# Altium footprint library CAN_BUS.PcbLib: 10 footprints
Each footprint in its own frame and in the unit in brackets; x right, y up, seen from the top. Pads: shape width x height; smd on the part's side, far side on the other; paste and mask are expansions set on the pad; w line width, h text height; cw(c..) or ccw(c..) is an arc to the next point about the centre after c.
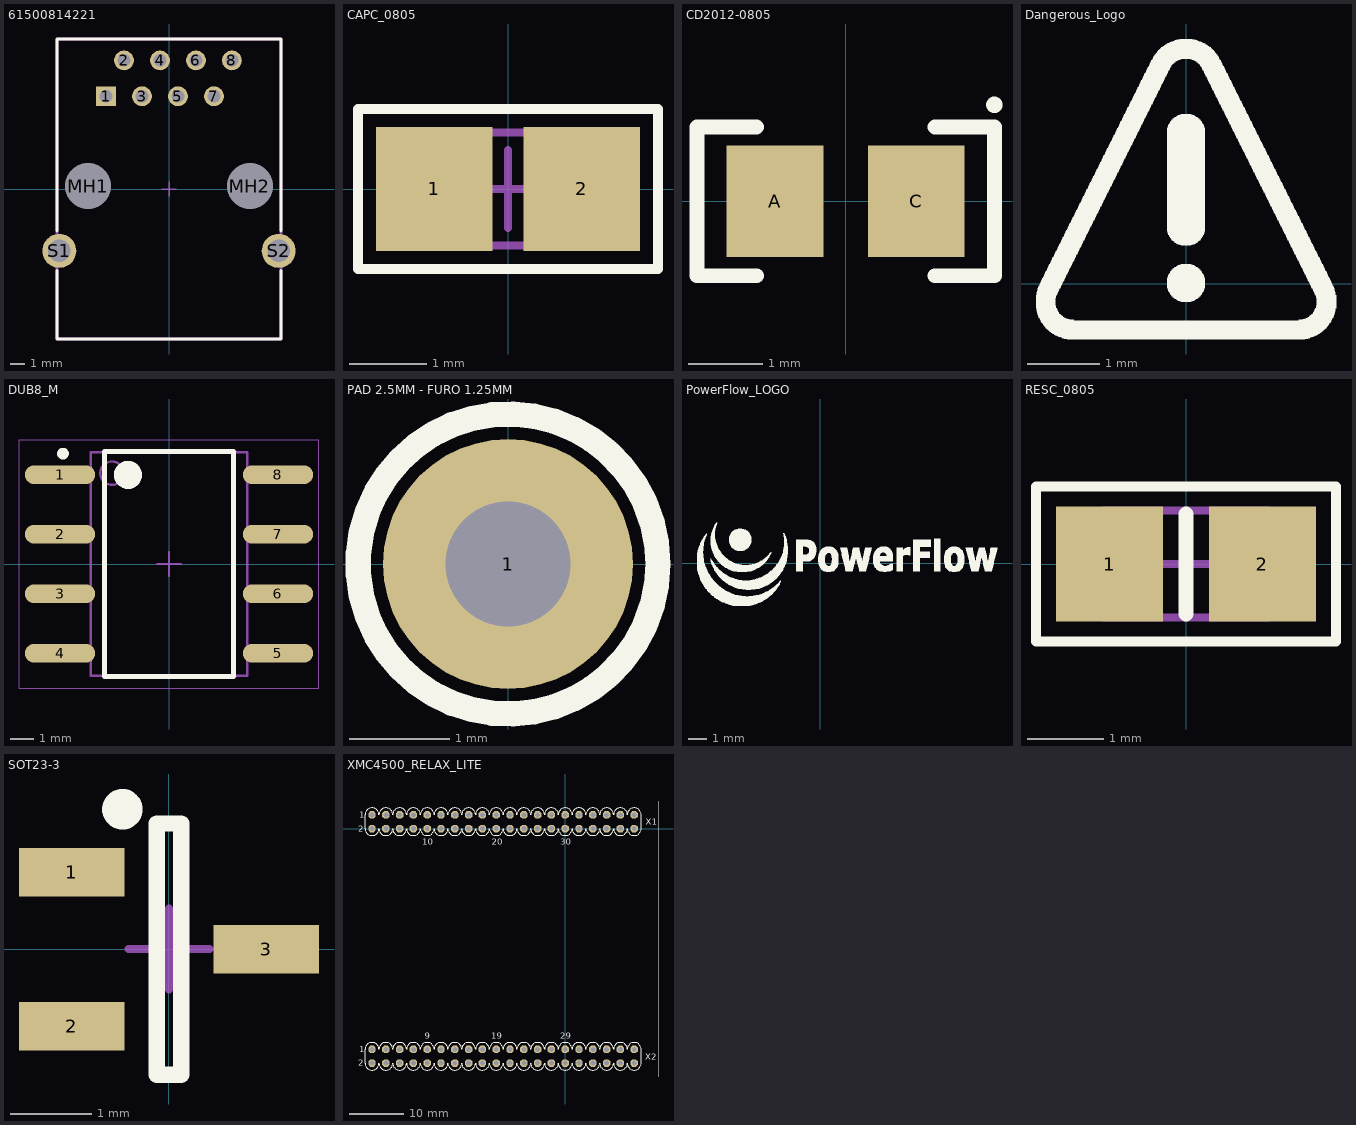
[diagram p0: the footprints below, top view; thin cyan lines are the x and y axes]

## 61500814221 [mm] "Modular Jack Horizontal Shielded 8P8C Tab Down"
height 13.65
pads (12):
  rect 1.4x1.4 hole 0.9: 1(-4.445,6.55)
  round 1.4 hole 0.9: 2(-3.175,9.09) 3(-1.905,6.55) 4(-0.635,9.09) 5(0.635,6.55) 6(1.905,9.09) 7(3.175,6.55) 8(4.445,9.09)
  round 3.15 hole 3.25 unplated: MH1(-5.715,0.2) MH2(5.715,0.2)
  round 2.4 hole 1.6: S1(-7.75,-4.37) S2(7.75,-4.37)
Top Overlay:
  lines w0.2: -7.92,-5.76 -7.92,-10.6 7.92,-10.6 7.92,-5.76 ; -7.92,-2.97 -7.92,10.6 7.92,10.6 7.92,-2.97
Mechanical 13:
  lines w0.2: -7.92,-10.6 -7.92,10.6 7.92,10.6 7.92,-10.6 -7.92,-10.6
Mechanical 15:
  lines w0.1: -0.5,0 0.5,0 ; 0,-0.5 0,0.5
3D body "61500814221.stp": height 13.7, standoff -3.9, extent -7.9,-10.6 7.9,10.6

## CAPC_0805 [mm] "Chip Capacitor, Body 2.0x1.3mm, IPC Low Density"
height 1.1
pads (2):
  rect 1.5x1.6 smd: 1(-0.95,0) 2(0.95,0)
Top Overlay:
  lines w0.127: -1.929,-1.029 -1.929,1.029 1.929,1.029 1.929,-1.029 -1.929,-1.029
Mechanical 13:
  lines w0.1: -1.1,-0.725 1.1,-0.725 1.1,0.725 -1.1,0.725 -1.1,-0.725
Mechanical 15:
  lines w0.1: -0.5,0 0.5,0 ; 0,-0.5 0,0.5
3D body: height 1.1, standoff 0, extent -1.1,-0.725 1.1,0.725

## CD2012-0805 [mm] "Chip Diode; Body 2.0 x 1.3 mm (LxW typ)"
height 1.1
pads (2):
  rect 1.3x1.5 smd: A(-0.95,0) C(0.95,0)
Top Overlay:
  circle w0.15: c2,1.3 r0.035
  lines w0.2: -1.2,-1 -2,-1 -2,1 -1.2,1 ; 1.2,-1 2,-1 2,1 1.2,1
3D body "User Library-CHIPLED-0805.STEP": height 0.9, standoff -0.01, extent -1.05,-0.675 1.05,0.675

## Dangerous_Logo [mil] "Micro Logotipo 15x15mm"
Top Overlay:
  drawing of 1247 lines, arcs and shapes, not listed

## DUB8_M [mm] "SOP, 8-Leads, Body 9.5x6.62mm, Pitch 2.54mm, IPC Low Density"
height 4.85
pads (8):
  oval 3x0.8 smd: 1(-4.65,3.81) 2(-4.65,1.27) 3(-4.65,-1.27) 4(-4.65,-3.81) 5(4.65,-3.81) 6(4.65,-1.27) 7(4.65,1.27) 8(4.65,3.81)
Top Overlay:
  circle w0.6: c-1.75,3.8 r0.3
  circle w0.25: c-4.525,4.71 r0.125
  lines w0.2: -2.75,-4.8 2.75,-4.8 2.75,4.8 -2.75,4.8 -2.75,-4.8
Mechanical 13:
  circle w0.1: c-2.435,3.875 r0.5
  lines w0.1: -3.335,-4.775 3.335,-4.775 3.335,4.775 -3.335,4.775 -3.335,-4.775
Mechanical 15:
  lines w0.05: -6.4,-5.3 6.4,-5.3 6.4,5.3 -6.4,5.3 -6.4,-5.3
  lines w0.1: -0.5,0 0.5,0 ; 0,-0.5 0,0.5
3D body: height 4.85, standoff 0.38, extent -3.335,-4.775 3.335,4.775

## PAD 2.5MM - FURO 1.25MM [mm]
pads (1):
  round 2.5 hole 1.25: 1(0,0)
Top Overlay:
  circle w0.254: c0,0 r1.5
3D body "User Library-Test Point Keystone - 5004 YELLOW.STEP": height 4.57, standoff -3.05, extent -1.27,-1.27 1.27,1.27

## PowerFlow_LOGO [mil] "16.5 x 6.5 mm"
Top Overlay:
  drawing of 1422 lines, arcs and shapes, not listed

## RESC_0805 [mm] "Chip Resistor, Body 2.0x1.3mm, IPC Low Density"
height 0.65
pads (2):
  rect 1.4x1.5 smd: 1(-1,0) 2(1,0)
Top Overlay:
  lines w0.127: -1.965,-1.015 -1.965,1.015 1.965,1.015 1.965,-1.015 -1.965,-1.015
  lines w0.2: 0,-0.65 0,0.65
Mechanical 13:
  lines w0.1: -1.075,-0.7 1.075,-0.7 1.075,0.7 -1.075,0.7 -1.075,-0.7
Mechanical 15:
  lines w0.1: -0.5,0 0.5,0 ; 0,-0.5 0,0.5
3D body: height 0.65, standoff 0, extent -1.075,-0.7 1.075,0.7

## SOT23-3 [mm] "SOT23, 3"
height 1.45
pads (3):
  rect 1.3x0.6 smd mask+0.05: 1(-1.2,0.95) 2(-1.2,-0.95) 3(1.2,0)
Top Overlay:
  circle w0.25: c-0.575,1.725 r0.125
  lines w0.2: -0.15,-1.55 0.15,-1.55 0.15,1.55 -0.15,1.55 -0.15,-1.55
Mechanical 15:
  lines w0.1: -0.5,0 0.5,0 ; 0,-0.5 0,0.5
3D body "User Library-3-lead sot23-3.step": height 1, standoff -0.02, extent -1.325,-1.46 1.151,1.46

## XMC4500_RELAX_LITE [mil]
pads (80):
  oct 53.37x53.37 hole 35.43: X1.1(-1400,100) X1.2(-1400,0) X1.3(-1300,100) X1.4(-1300,0) X1.5(-1200,100) X1.6(-1200,0) X1.7(-1100,100) X1.8(-1100,0) X1.9(-1000,100) X1.10(-1000,0) X1.11(-900,100) X1.12(-900,0) X1.13(-800,100) X1.14(-800,0) X1.15(-700,100) X1.16(-700,0) X1.17(-600,100) X1.18(-600,0) X1.19(-500,100) X1.20(-500,0) X1.21(-400,100) X1.22(-400,0) X1.23(-300,100) X1.24(-300,0) X1.25(-200,100) X1.26(-200,0) X1.27(-100,100) X1.28(-100,0) X1.29(0,100) X1.30(0,0) X1.31(100,100) X1.32(100,0) X1.33(200,100) X1.34(200,0) X1.35(300,100) X1.36(300,0) X1.37(400,100) X1.38(400,0) X1.39(500,100) X1.40(500,0) X2.1(-1400,-1600) X2.2(-1400,-1700) X2.3(-1300,-1600) X2.4(-1300,-1700) X2.5(-1200,-1600) X2.6(-1200,-1700) X2.7(-1100,-1600) X2.8(-1100,-1700) X2.9(-1000,-1600) X2.10(-1000,-1700) X2.11(-900,-1600) X2.12(-900,-1700) X2.13(-800,-1600) X2.15(-700,-1600) X2.16(-700,-1700) X2.17(-600,-1600) X2.18(-600,-1700) X2.19(-500,-1600) X2.20(-500,-1700) X2.21(-400,-1600) X2.22(-400,-1700) X2.23(-300,-1600) X2.24(-300,-1700) X2.25(-200,-1600) X2.26(-200,-1700) X2.27(-100,-1600) X2.28(-100,-1700) X2.29(0,-1600) X2.30(0,-1700) X2.31(100,-1600) X2.32(100,-1700) X2.33(200,-1600) X2.34(200,-1700) X2.35(300,-1600) X2.36(300,-1700) X2.37(400,-1600) X2.38(400,-1700) X2.39(500,-1600) X2.40(500,-1700)
  oct 53.37x53.37 hole 32: X2.14(-800,-1700)
Top Overlay:
  pour cut-out: 672.43,-1799.98 672.43,200.02
  lines w5: -1450,-1700 ccw(c-1400,-1700) -1350,-1700 ccw(c-1300,-1700) -1250,-1700 ccw(c-1200,-1700) -1150,-1700 ccw(c-1100,-1700) -1050,-1700 ccw(c-1000,-1700) -950,-1700 ccw(c-900,-1700) -850,-1700 ccw(c-800,-1700) -750,-1700 ccw(c-700,-1700) -650,-1700 ccw(c-600,-1700) -550,-1700 ccw(c-500,-1700) -450,-1700 ccw(c-400,-1700) -350,-1700 ccw(c-300,-1700) -250,-1700 ccw(c-200,-1700) -150,-1700 ccw(c-100,-1700) -50,-1700 ccw(c0,-1700) 50,-1700 ccw(c100,-1700) 150,-1700 ccw(c200,-1700) 250,-1700 ccw(c300,-1700) 350,-1700 ccw(c400,-1700) 450,-1700 ccw(c500,-1700) 550,-1700 550,-1600 ccw(c500,-1600) 450,-1600 ccw(c400,-1600) 350,-1600 ccw(c300,-1600) 250,-1600 ccw(c200,-1600) 150,-1600 ccw(c100,-1600) 50,-1600 ccw(c0,-1600) -50,-1600 ccw(c-100,-1600) -150,-1600 ccw(c-200,-1600) -250,-1600 ccw(c-300,-1600) -350,-1600 ccw(c-400,-1600) -450,-1600 ccw(c-500,-1600) -550,-1600 ccw(c-600,-1600) -650,-1600 ccw(c-700,-1600) -750,-1600 ccw(c-800,-1600) -850,-1600 ccw(c-900,-1600) -950,-1600 ccw(c-1000,-1600) -1050,-1600 ccw(c-1100,-1600) -1150,-1600 ccw(c-1200,-1600) -1250,-1600 ccw(c-1300,-1600) -1350,-1600 ccw(c-1400,-1600) -1450,-1600 -1450,-1700 ; -1450,0 ccw(c-1400,0) -1350,0 ccw(c-1300,0) -1250,0 ccw(c-1200,0) -1150,0 ccw(c-1100,0) -1050,0 ccw(c-1000,0) -950,0 ccw(c-900,0) -850,0 ccw(c-800,0) -750,0 ccw(c-700,0) -650,0 ccw(c-600,0) -550,0 ccw(c-500,0) -450,0 ccw(c-400,0) -350,0 ccw(c-300,0) -250,0 ccw(c-200,0) -150,0 ccw(c-100,0) -50,0 ccw(c0,0) 50,0 ccw(c100,0) 150,0 ccw(c200,0) 250,0 ccw(c300,0) 350,0 ccw(c400,0) 450,0 ccw(c500,0) 550,0 550,100 ccw(c500,100) 450,100 ccw(c400,100) 350,100 ccw(c300,100) 250,100 ccw(c200,100) 150,100 ccw(c100,100) 50,100 ccw(c0,100) -50,100 ccw(c-100,100) -150,100 ccw(c-200,100) -250,100 ccw(c-300,100) -350,100 ccw(c-400,100) -450,100 ccw(c-500,100) -550,100 ccw(c-600,100) -650,100 ccw(c-700,100) -750,100 ccw(c-800,100) -850,100 ccw(c-900,100) -950,100 ccw(c-1000,100) -1050,100 ccw(c-1100,100) -1150,100 ccw(c-1200,100) -1250,100 ccw(c-1300,100) -1350,100 ccw(c-1400,100) -1450,100 -1450,0
  text "30" at -34.45,-118.11 h45
  text "20" at -532.48,-118.11 h45
  text "2" at -1501.65,-1719.68 h45
  text "1" at -1491.54,-1619.68 h45
  text "X2" at 580.46,-1673.61 h45
  text "X1" at 584.39,28.17 h45
  text "9" at -1018.5,-1521.26 h45
  text "19" at -534.45,-1521.26 h45
  text "29" at -34.45,-1521.26 h45
  text "1" at -1492.52,78.15 h45
  text "2" at -1501.65,-21.85 h45
  text "10" at -1034.45,-118.11 h45